# Altium schematic symbol library XTAL.SchLib: 2 symbols
Pins are listed as number, name and electrical type; pins without a type are passive.

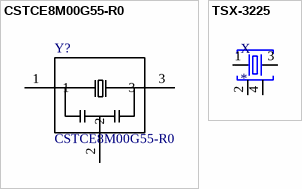
[diagram p0: symbols CSTCE8M00G55-R0 to TSX-3225]

## CSTCE8M00G55-R0
designator Y?
Ceramic Resonator 8MHz ??0.5% _Tol_ ??0.2% _Stability_ 33pF 40Ohm 3-Pin CSMD T/R; MF: Murata; SnapEDA_Link: https://www.snapeda.com/parts/CSTCE8M00G55-R0/Murata%20Electronics%20North%20America/view-part/?ref=snap; Availability: Good; MP: CSTCE8M00G55-R0; Price: 0.27 USD; Package: SMD-3 Murata; Value: *
footprint OSC_CSTCE8M00G55-R0
pins: 1, 2 (power), 3

## TSX-3225
designator X
16MHz Â±10ppm Crystal 9pF 60 Ohms 4-SMD, No Lead; MF: EPSON; Package: SMD-4 Epson; Price: None; SnapEDA_Link: https://www.snapeda.com/parts/TSX-3225/EPSON/view-part/557780/?ref=snap; Availability: Unavailable; Value: *; MP: TSX-3225
footprint TSX-3225
pins: 1, 2, 3, 4